# Altium schematic symbol library ModdedTSPartSymbols.SchLib: 30 symbols
Pins are listed as number, name and electrical type; pins without a type are passive.

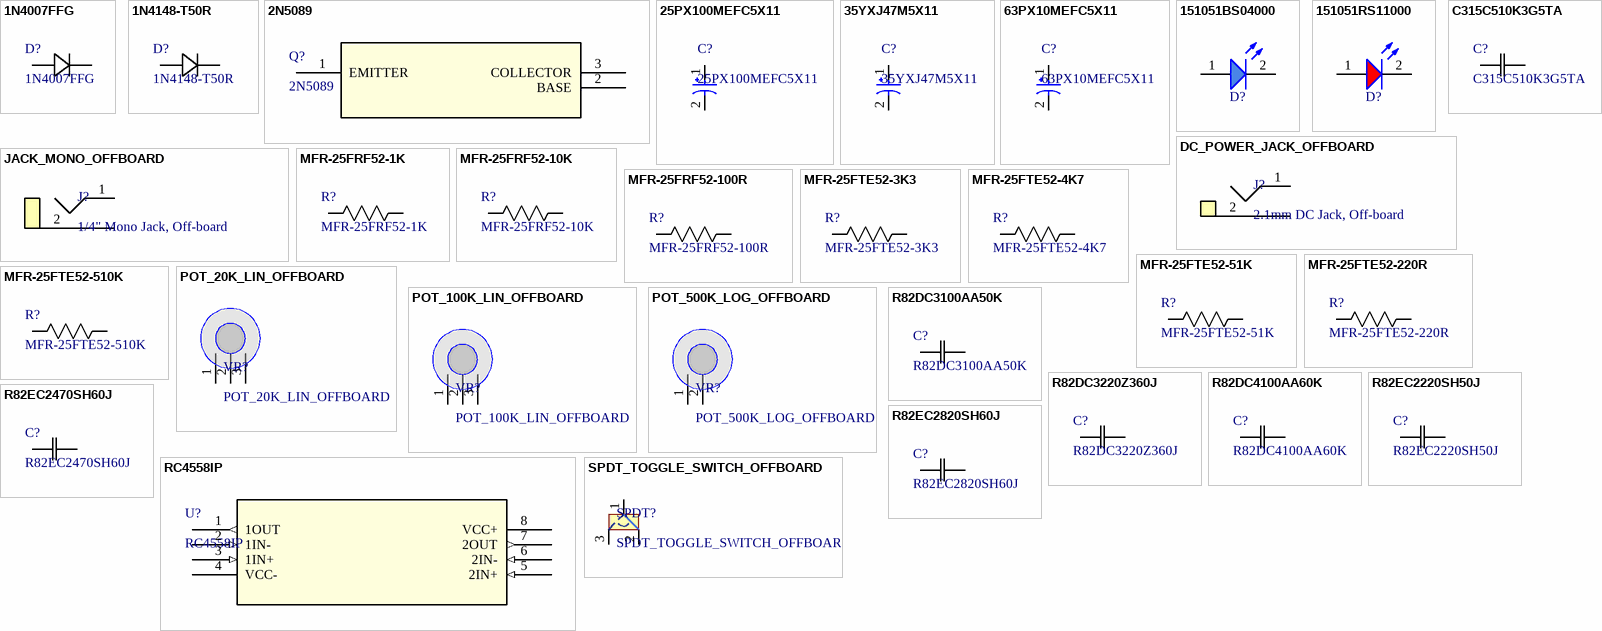
[diagram p0: symbols 1N4007FFG to SPDT_TOGGLE_SWITCH_OFFBOARD]

## 1N4007FFG
designator D?
Diode 1000 V 1A Through Hole Axial; Manufacturer_Name: onsemi; Manufacturer_Part_Number: 1N4007FFG
footprint DIODE_1N4007FFG (Diode 1000 V 1A Through Hole Axial)
pins: 1, 2

## 1N4148-T50R
designator D?
Diode 100 V 200mA Through Hole DO-35; Manufacturer_Name: onsemi; Manufacturer_Part_Number: 1N4148-T50RCT-ND
footprint DIODE_1N4148-T50R (Diode 100 V 200mA Through Hole DO-35)
pins: 1, 2

## 2N5089
designator Q?
Bipolar (BJT) Transistor NPN 25 V 50 mA 50MHz 625 mW Through Hole TO-92-3; Manufacturer_Name: Central Semiconductor; Copyright: Copyright (C) 2025 Ultra Librarian. All rights reserved.; Manufacturer_Part_Number: 2N5089; RefDes: RefDes; Type: Type
footprint BJT_2N5089 (Bipolar (BJT) Transistor NPN 25 V 50 mA 50MHz 625 mW Through Hole TO-92-3)
pins: 1 EMITTER, 2 BASE, 3 COLLECTOR

## 25PX100MEFC5X11
designator C?
100 µF 25 V Aluminum Electrolytic Capacitors Radial, Can 1000 Hrs @ 105°C; Manufacturer_Name: Rubycon; Copyright: Copyright (C) 2025 Ultra Librarian. All rights reserved.; Manufacturer_Part_Number: 25PX100MEFC5X11
footprint CAP_25PX100MEFC5X11 (100 µF 25 V Aluminum Electrolytic Capacitors Radial, Can 1000 Hrs @ 105°C)
pins: 1, 2

## 35YXJ47M5X11
designator C?
47 µF 35 V Aluminum Electrolytic Capacitors Radial, Can 5000 Hrs @ 105°C; Manufacturer_Name: Rubycon; Copyright: Copyright (C) 2026 Ultra Librarian. All rights reserved.; Manufacturer_Part_Number: 35YXJ47M5X11
footprint CAP_35YXJ47M5X11 (47 µF 35 V Aluminum Electrolytic Capacitors Radial, Can 5000 Hrs @ 105°C)
pins: 1, 2

## 63PX10MEFC5X11
designator C?
10 µF 63 V Aluminum Electrolytic Capacitors Radial, Can 1000 Hrs @ 105°C; Manufacturer_Name: Rubycon; Copyright: Copyright (C) 2025 Ultra Librarian. All rights reserved.; Manufacturer_Part_Number: 63PX10MEFC5X11
footprint CAP_63PX10MEFC5X11 (10 µF 63 V Aluminum Electrolytic Capacitors Radial, Can 1000 Hrs @ 105°C)
pins: 1, 2

## 151051BS04000
designator D?, comment Blue, 3.2V, 40°  (value not drawn)
WL-TMRC Mono-color Round Color, THT, D5.9 x H8.7mm, Blue, 3.2V, 40°; Manufacturer Part Number: 151051BS04000; Manufacturer: Wurth Elektronik; Case/Size Code: 5mm; Chip Technology: AlGaInP; Dominant Wavelength: 645nm; Emitting Color: Red; Forward Voltage: 2.1V; Luminous Intensity: 30mcd; Peak Wavelength: 650nm; Viewing Angle: 60°; Category: Signal LEDs; Match Code: WL-TMRC; ComponentLink1Description: Website Link; ComponentLink2Description: Datasheet Link; Mount: Through Hole; Operating Temperature Max: 85°C; Operating Temperature Min: -40°C; Packaging: Bulk; Height: 8.7mm; Diameter: 5.9mm
footprint LED_151051BS04000 (Blue 470nm LED Indication - Discrete 3.2V Radial)
pins: 1 A, 2 K

## 151051RS11000
designator D?, comment Red, 2.1V, 60°  (value not drawn)
WL-TMRC Mono-color Round Color, THT, D5.9 x H8.7mm, Red, 2.1V, 60°; Manufacturer Part Number: 151051RS11000; Manufacturer: Wurth Elektronik; Case/Size Code: 5mm; Chip Technology: AlGaInP; Dominant Wavelength: 645nm; Luminous Intensity: 30mcd; Peak Wavelength: 650nm; Category: Signal LEDs; Match Code: WL-TMRC; ComponentLink1Description: Website Link; ComponentLink1URL: https://www.we-online.com/redexpert/article/151051RS11000?ad; ComponentLink2Description: Datasheet Link; ComponentLink2URL: https://www.we-online.com/redexpert/spec/151051RS11000?ad; Mount: Through Hole; Operating Temperature Max: 85°C; Operating Temperature Min: -40°C; Packaging: Bulk; Height: 8.7mm; Diameter: 5.9mm; Emitting Color: Red; Forward Voltage: 2.1V; Viewing Angle: 60°
footprint LED_151051RS11000 (Red 645nm LED Indication - Discrete 2.1V Radial)
pins: 1 A, 2 K

## C315C510K3G5TA
designator C?
51 pF ±10% 25V Ceramic Capacitor C0G, NP0 Radial; Manufacturer_Name: Kemet; Copyright: Copyright (C) 2026 Ultra Librarian. All rights reserved.; Manufacturer_Part_Number: C315C510K3G5TA
footprint CAP_C315C510K3G5TA (51 pF ±10% 25V Ceramic Capacitor C0G, NP0 Radial)
pins: 1, 2

## DC_POWER_JACK_OFFBOARD
designator J?, comment 2.1mm DC Jack, Off-board
Power Barrel Connector Jack 2.10mm ID (0.083"), 5.50mm OD (0.217") Chassis Mount; Supplier 1: DigiKey; Supplier Part Number 1: EJ501A-ND
footprint DC_POWER_JACK_OFFBOARD (Through holes for wires to Power Barrel Connector Jack 2.10mm ID (0.083"), 5.50mm OD (0.217") Chassis Mount)
pins: 1 TIP, 2 SLEEVE

## JACK_MONO_OFFBOARD
designator J?, comment 1/4" Mono Jack, Off-board
6.35mm (0.250", 1/4") - Headphone Phone Jack Mono Connector Solder Eyelet(s); Supplier 1: RS (Formerly Allied Electronics); Supplier Part Number 1: 11
footprint JACK_MONO_OFFBOARD (Through holes for wires to 6.35mm (0.250", 1/4") - Headphone Phone Jack Mono Connector Solder Eyelet(s))
pins: 1 TIP, 2 SLEEVE

## MFR-25FRF52-1K
designator R?
1 kOhms ±1% 0.25W, 1/4W Through Hole Resistor Axial Metal Film; Manufacturer_Name: Yageo; Copyright: Copyright (C) 2025 Ultra Librarian. All rights reserved.; Manufacturer_Part_Number: MFR-25FRF52-1K
footprint R_MFR-25FRF52-1K (1 kOhms ±1% 0.25W, 1/4W Through Hole Resistor Axial Metal Film)
pins: 1, 2

## MFR-25FRF52-10K
designator R?
10 kOhms ±1% 0.25W, 1/4W Through Hole Resistor Axial Metal Film; Manufacturer_Name: Yageo; Copyright: Copyright (C) 2025 Ultra Librarian. All rights reserved.; Manufacturer_Part_Number: MFR-25FRF52-10K
footprint R_MFR-25FRF52-10K (10 kOhms ±1% 0.25W, 1/4W Through Hole Resistor Axial Metal Film)
pins: 1, 2

## MFR-25FRF52-100R
designator R?
100 Ohms ±1% 0.25W, 1/4W Through Hole Resistor Axial Metal Film; Manufacturer_Name: Yageo; Copyright: Copyright (C) 2025 Ultra Librarian. All rights reserved.; Manufacturer_Part_Number: MFR-25FRF52-100R
footprint R_MFR-25FRF52-100R (100 Ohms ±1% 0.25W, 1/4W Through Hole Resistor Axial Metal Film)
pins: 1, 2

## MFR-25FTE52-3K3
designator R?
3.3 kOhms ±1% 0.25W, 1/4W Through Hole Resistor Axial Metal Film; Manufacturer_Name: Yageo; Copyright: Copyright (C) 2025 Ultra Librarian. All rights reserved.; Manufacturer_Part_Number: MFR-25FTE52-3K3
footprint R_MFR-25FTE52-3K3 (3.3 kOhms ±1% 0.25W, 1/4W Through Hole Resistor Axial Metal Film)
pins: 1, 2

## MFR-25FTE52-4K7
designator R?
4.7 kOhms ±1% 0.25W, 1/4W Through Hole Resistor Axial Metal Film; Manufacturer_Name: Yageo; Copyright: Copyright (C) 2025 Ultra Librarian. All rights reserved.; Manufacturer_Part_Number: MFR-25FTE52-4K7
footprint R_MFR-25FTE52-4K7 (4.7 kOhms ±1% 0.25W, 1/4W Through Hole Resistor Axial Metal Film)
pins: 1, 2

## MFR-25FTE52-51K
designator R?
51 kOhms ±1% 0.25W, 1/4W Through Hole Resistor Axial Metal Film; Manufacturer_Name: Yageo; Copyright: Copyright (C) 2025 Ultra Librarian. All rights reserved.; Manufacturer_Part_Number: MFR-25FTE52-51K
footprint R_MFR-25FTE52-51K (51 kOhms ±1% 0.25W, 1/4W Through Hole Resistor Axial Metal Film)
pins: 1, 2

## MFR-25FTE52-220R
designator R?
220 Ohms ±1% 0.25W, 1/4W Through Hole Resistor Axial Metal Film; Manufacturer_Name: Yageo; Copyright: Copyright (C) 2025 Ultra Librarian. All rights reserved.; Manufacturer_Part_Number: MFR-25FTE52-220R
footprint R_MFR-25FTE52-220R (220 Ohms ±1% 0.25W, 1/4W Through Hole Resistor Axial Metal Film)
pins: 1, 2

## MFR-25FTE52-510K
designator R?
510 kOhms ±1% 0.25W, 1/4W Through Hole Resistor Axial Metal Film; Manufacturer_Name: Yageo; Copyright: Copyright (C) 2025 Ultra Librarian. All rights reserved.; Manufacturer_Part_Number: MFR-25FTE52-510K
footprint R_MFR-25FTE52-510K (510 kOhms ±1% 0.25W, 1/4W Through Hole Resistor Axial Metal Film)
pins: 1, 2

## POT_20K_LIN_OFFBOARD
designator VR?
B20K, 16mm Potentiometers - 18T Knurled Shaft - Solder Lug
footprint POT_20K_LIN_OFFBOARD (Through holes for wires to B20K, 16mm Potentiometers - 18T Knurled Shaft - Solder Lug)
pins: 1, 2, 3

## POT_100K_LIN_OFFBOARD
designator VR?
B100K, 16mm Potentiometers - 18T Knurled Shaft - Solder Lug
footprint POT_100K_LIN_OFFBOARD (Through holes for wires to B100K, 16mm Potentiometers - 18T Knurled Shaft - Solder Lug)
pins: 1, 2, 3

## POT_500K_LOG_OFFBOARD
designator VR?
A500K, 16mm Potentiometers - 18T Knurled Shaft - Solder Lug
footprint POT_500K_LOG_OFFBOARD (Through holes for wires to A500K, 16mm Potentiometers - 18T Knurled Shaft - Solder Lug)
pins: 1, 2

## R82DC3100AA50K
designator C?
0.1 µF Film Capacitor 40V 63V Polyester, Polyethylene Terephthalate (PET), Metallized - Stacked Radial; Manufacturer_Name: Kemet; Type: Film Capacitor; Copyright: Copyright (C) 2026 Ultra Librarian. All rights reserved.; Manufacturer_Part_Number: R82DC3100AA50K; Datasheet: https://content.kemet.com/datasheets/KEM_F3101_R82.pdf
footprint CAP_R82DC3100AA50K (0.1 µF Film Capacitor 40V 63V Polyester, Polyethylene Terephthalate (PET), Metallized - Stacked Radial)
pins: 1, 2

## R82DC3220Z360J
designator C?
0.22 µF Film Capacitor 40V 63V Polyester, Polyethylene Terephthalate (PET), Metallized - Stacked Radial; Manufacturer_Name: Kemet; Type: Film Capacitor; Copyright: Copyright (C) 2026 Ultra Librarian. All rights reserved.; Manufacturer_Part_Number: R82DC3220Z360J; Datasheet: https://content.kemet.com/datasheets/KEM_F3101_R82.pdf
footprint CAP_R82DC3220Z360J (0.22 µF Film Capacitor 40V 63V Polyester, Polyethylene Terephthalate (PET), Metallized - Stacked Radial)
pins: 1, 2

## R82DC4100AA60K
designator C?
1 µF Film Capacitor 40V 63V Polyester, Polyethylene Terephthalate (PET), Metallized - Stacked Radial; Manufacturer_Name: Kemet; Type: Film Capacitor; Copyright: Copyright (C) 2026 Ultra Librarian. All rights reserved.; Manufacturer_Part_Number: R82DC4100AA60K
footprint CAP_R82DC4100AA60K (1 µF Film Capacitor 40V 63V Polyester, Polyethylene Terephthalate (PET), Metallized - Stacked Radial)
pins: 1, 2

## R82EC2220SH50J
designator C?
0.022 µF Film Capacitor 63V 100V Polyester, Polyethylene Terephthalate (PET), Metallized - Stacked Radial; Manufacturer_Name: Kemet; Type: Film Capacitor; Copyright: Copyright (C) 2026 Ultra Librarian. All rights reserved.; Manufacturer_Part_Number: R82EC2220SH50J; Datasheet: https://content.kemet.com/datasheets/KEM_F3101_R82.pdf
footprint CAP_R82EC2220SH50J (0.022 µF Film Capacitor 63V 100V Polyester, Polyethylene Terephthalate (PET), Metallized - Stacked Radial)
pins: 1, 2

## R82EC2470SH60J
designator C?
0.047 µF Film Capacitor 63V 100V Polyester, Polyethylene Terephthalate (PET), Metallized - Stacked Radial; Manufacturer_Name: Kemet; Type: Film Capacitor; Copyright: Copyright (C) 2026 Ultra Librarian. All rights reserved.; Manufacturer_Part_Number: R82EC2470SH60J; Datasheet: https://content.kemet.com/datasheets/KEM_F3101_R82.pdf
footprint CAP_R82EC2470SH60J (0.047 µF Film Capacitor 63V 100V Polyester, Polyethylene Terephthalate (PET), Metallized - Stacked Radial)
pins: 1, 2

## R82EC2820SH60J
designator C?
0.082 µF Film Capacitor 63V 100V Polyester, Polyethylene Terephthalate (PET), Metallized - Stacked Radial; Manufacturer_Name: Kemet; Type: Film Capacitor; Copyright: Copyright (C) 2026 Ultra Librarian. All rights reserved.; Manufacturer_Part_Number: R82EC2820SH60J; Datasheet: https://content.kemet.com/datasheets/KEM_F3101_R82.pdf
footprint CAP_R82EC2820SH60J (0.082 µF Film Capacitor 63V 100V Polyester, Polyethylene Terephthalate (PET), Metallized - Stacked Radial)
pins: 1, 2

## RC4558IP
designator U?
Standard (General Purpose) Amplifier 2 Circuit Differential 8-PDIP; Manufacturer_Name: Texas Instruments; Copyright: Copyright (C) 2025 Ultra Librarian. All rights reserved.; Manufacturer_Part_Number: RC4558IP; RefDes: RefDes; Type: Type
footprint OPAMP_RC4558IP (Standard (General Purpose) Amplifier 2 Circuit Differential 8-PDIP)
pins: 1 1OUT (out), 2 1IN- (in), 3 1IN+ (in), 4 VCC- (power), 5 2IN+ (in), 6 2IN- (in), 7 2OUT (out), 8 VCC+ (power)

## SPDT_TOGGLE_SWITCH_OFFBOARD
designator SPDT?
Toggle Switch SPDT Panel Mount
footprint SPDT_TOGGLE_SWITCH_OFFBOARD (Through holes for wires to a Toggle Switch SPDT Panel Mount)
pins: 1, 2, 3